# Altium footprint library DAC80502DRXR.PcbLib: 3 footprints
Each footprint in its own frame and in the unit in brackets; x right, y up, seen from the top. Pads: shape width x height; smd on the part's side, far side on the other; paste and mask are expansions set on the pad; w line width, h text height; cw(c..) or ccw(c..) is an arc to the next point about the centre after c.
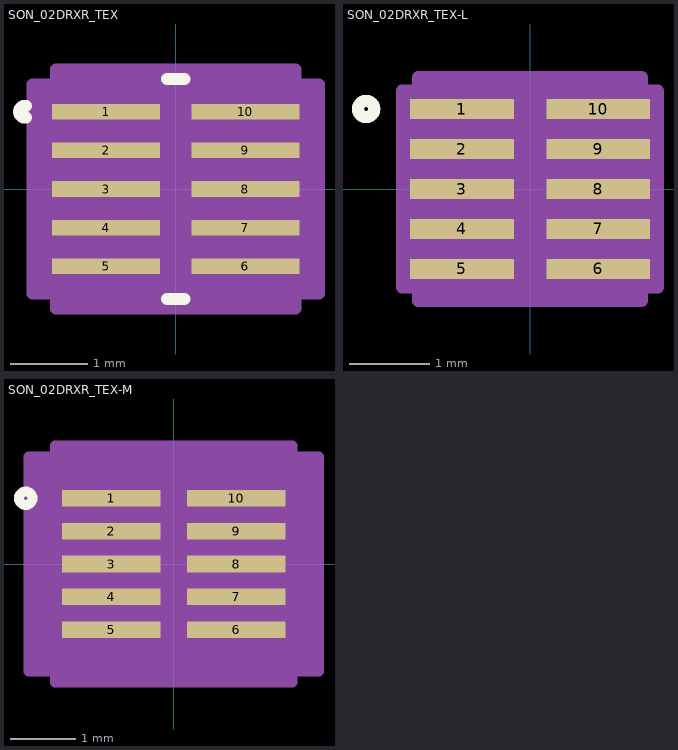
[diagram p0: the footprints below, top view; thin cyan lines are the x and y axes]

## SON_02DRXR_TEX [mil]
pads (10):
  rect 55x8 smd paste+0 mask+0: 1(-35.5,39.38) 2(-35.5,19.69) 3(-35.5,0) 4(-35.5,-19.69) 5(-35.5,-39.38) 6(35.5,-39.38) 7(35.5,-19.69) 8(35.5,0) 9(35.5,19.69) 10(35.5,39.38)
Top Overlay:
  lines w6: -76.1,36.47 cw(c-76.84,39.38) -76.1,42.29 ; -4.49,-56 4.49,-56 ; -4.49,56 4.49,56
Mechanical 13:
  circle w6: c-8,39.38 r0
  lines w0: -12,51 ccw(c0,51) 12,51
  lines w1: -51,-51 51,-51 51,51 -51,51 -51,-51
Mechanical 15:
  region: -61,-53.38 -73,-53.38 -73,53.38 -61,53.38 -61,61 61,61 61,53.38 73,53.38 73,-53.38 61,-53.38 61,-61 -61,-61
  lines w6: -73,-53.38 -73,53.38 -61,53.38 -61,61 61,61 61,53.38 73,53.38 73,-53.38 61,-53.38 61,-61 -61,-61 -61,-53.38 -73,-53.38
3D body "SON_02DRXR_TEX.step": height 32.09, standoff 0, extent -50.98,-50.98 50.98,50.98

## SON_02DRXR_TEX-L [mil]
pads (10):
  rect 51x10 smd paste+0 mask+0: 1(-33.5,39.38) 2(-33.5,19.69) 3(-33.5,0) 4(-33.5,-19.69) 5(-33.5,-39.38) 6(33.5,-39.38) 7(33.5,-19.69) 8(33.5,0) 9(33.5,19.69) 10(33.5,39.38)
Top Overlay:
  circle w6: c-80.69,39.38 r4
Mechanical 13:
  circle w0: c-8,39.38 r3
  lines w0: -12,51 ccw(c0,51) 12,51
  lines w1: -51,-51 51,-51 51,51 -51,51 -51,-51
Mechanical 15:
  region: -55,-48.38 -63,-48.38 -63,48.38 -55,48.38 -55,55 55,55 55,48.38 63,48.38 63,-48.38 55,-48.38 55,-55 -55,-55
  lines w6: -63,-48.38 -63,48.38 -55,48.38 -55,55 55,55 55,48.38 63,48.38 63,-48.38 55,-48.38 55,-55 -55,-55 -55,-48.38 -63,-48.38
3D body "SON_02DRXR_TEX.step": height 32.09, standoff 0, extent -50.98,-50.98 50.98,50.98

## SON_02DRXR_TEX-M [mil]
pads (10):
  rect 59x10 smd paste+0 mask+0: 1(-37.5,39.38) 2(-37.5,19.69) 3(-37.5,0) 4(-37.5,-19.69) 5(-37.5,-39.38) 6(37.5,-39.38) 7(37.5,-19.69) 8(37.5,0) 9(37.5,19.69) 10(37.5,39.38)
Top Overlay:
  circle w6: c-88.69,39.38 r4
Mechanical 13:
  circle w0: c-8,39.38 r3
  lines w0: -12,51 ccw(c0,51) 12,51
  lines w1: -51,-51 51,-51 51,51 -51,51 -51,-51
Mechanical 15:
  region: -71,-64.38 -87,-64.38 -87,64.38 -71,64.38 -71,71 71,71 71,64.38 87,64.38 87,-64.38 71,-64.38 71,-71 -71,-71
  lines w6: -87,-64.38 -87,64.38 -71,64.38 -71,71 71,71 71,64.38 87,64.38 87,-64.38 71,-64.38 71,-71 -71,-71 -71,-64.38 -87,-64.38
3D body "SON_02DRXR_TEX.step": height 32.09, standoff 0, extent -50.98,-50.98 50.98,50.98